# Altium footprint library MEJ2.PcbLib: 2 footprints
Each footprint in its own frame and in the unit in brackets; x right, y up, seen from the top. Pads: shape width x height; smd on the part's side, far side on the other; paste and mask are expansions set on the pad; w line width, h text height; cw(c..) or ccw(c..) is an arc to the next point about the centre after c.
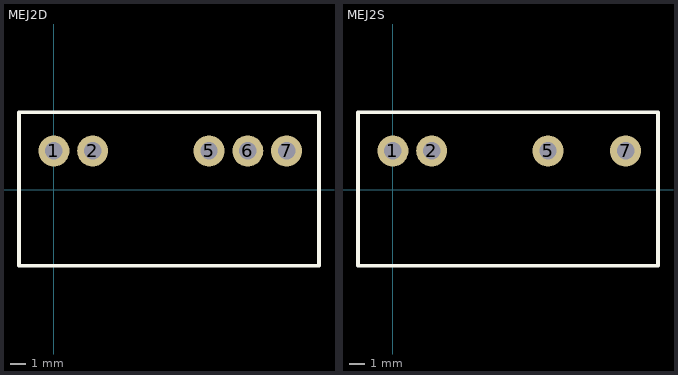
[diagram p0: the footprints below, top view; thin cyan lines are the x and y axes]

## MEJ2D [mil] "MEJ2 Series Dual Output Supply"
pads (5):
  round 80 hole 45: 1(0,100) 2(100,100) 5(400,100) 6(500,100) 7(600,100)
Top Overlay:
  lines w10: -89.96,-196.06 -89.96,199.61 683.66,199.61 683.66,-196.06 -89.96,-196.06
3D body: height 492.13, standoff -161.42, extent -92.71,-188.31 675,198.31

## MEJ2S [mil] "MEJ2 Series Single Output Supply"
pads (4):
  round 80 hole 45: 1(0,100) 2(100,100) 5(400,100) 7(600,100)
Top Overlay:
  lines w10: -89.96,-196.06 683.66,-196.06 683.66,199.61 -89.96,199.61 -89.96,-196.06
3D body: height 492.13, standoff -161.42, extent -92.72,-188.31 675,198.31